# EAGLE library part FPC_12_0.5MM (library RTK Facet)
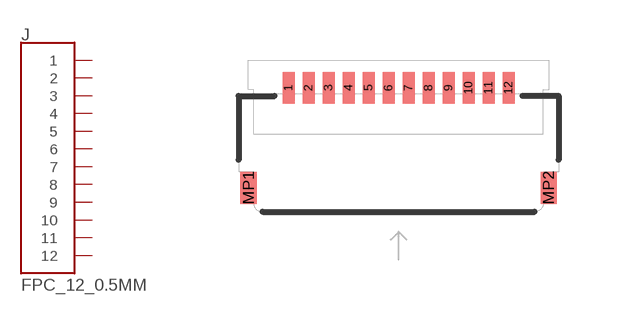
[diagram p1: symbol with the pads of FPC_12_DOUBLESIDED_BACKFLIP; footprint FPC_12_DOUBLESIDED_BACKFLIP]

Designator prefix J

## FPC_12_0.5MM_BACKFLIP (PROD_ID: CONN-15766)  [FPC_12_DOUBLESIDED_BACKFLIP]
1  1
2  2
3  3
4  4
5  5
6  6
7  7
8  8
9  9
10  10
11  11
12  12

## Footprint FPC_12_DOUBLESIDED_BACKFLIP (pad centres in mm)
smd 0.3 x 0.8: 1 -2.75,1.35; 2 -2.25,1.35; 3 -1.75,1.35; 4 -1.25,1.35; 5 -0.75,1.35; 6 -0.25,1.35; 7 0.25,1.35; 8 0.75,1.35; 9 1.25,1.35; 10 1.75,1.35; 11 2.25,1.35; 12 2.75,1.35
smd 0.4 x 0.8: MP1 -3.75,-1.15; MP2 3.75,-1.15